# Altium footprint library RES_SMD_0603.PcbLib: 3 footprints
Each footprint in its own frame and in the unit in brackets; x right, y up, seen from the top. Pads: shape width x height; smd on the part's side, far side on the other; paste and mask are expansions set on the pad; w line width, h text height; cw(c..) or ccw(c..) is an arc to the next point about the centre after c.
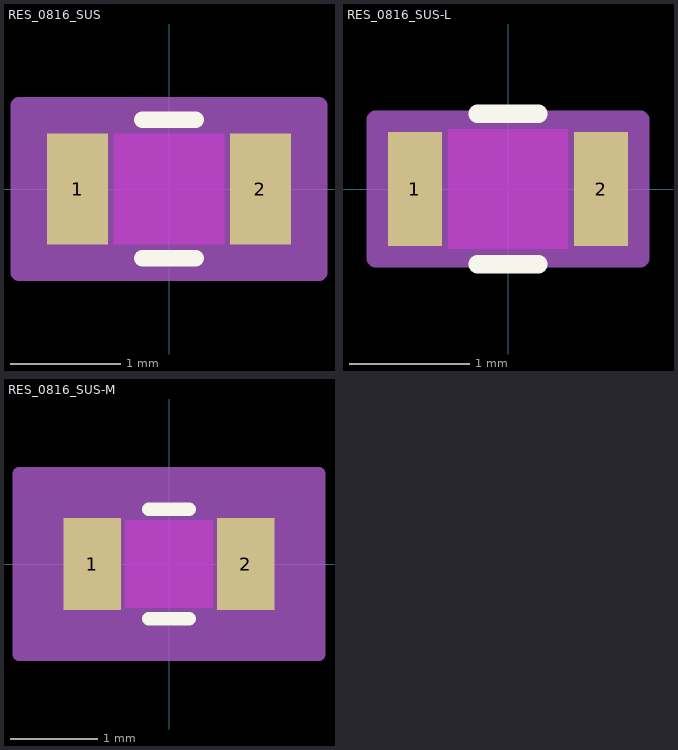
[diagram p0: the footprints below, top view; thin cyan lines are the x and y axes]

## RES_0816_SUS [mm]
pads (2):
  rect 0.553x1 smd paste+0 mask+0: 1(-0.827,0) 2(0.827,0)
Top Layer keep-out:
  region: -0.499,-0.449 -0.499,0.449 0.499,0.449 0.499,-0.449
Top Overlay:
  lines w0.152: -0.242,-0.627 0.242,-0.627 ; -0.242,0.627 0.242,0.627
Keep-Out Layer:
  region: -0.499,-0.5 -0.499,0.5 0.499,0.5 0.499,-0.5
Mechanical 13:
  lines w0.025: -0.9,-0.5 -0.9,0.5 ; -0.9,-0.5 -0.55,-0.5 -0.55,0.5 -0.9,0.5 ; -0.9,-0.5 0.9,-0.5 ; -0.9,-0.5 -0.9,0.5 ; -0.9,0.5 0.9,0.5 ; 0.9,-0.5 0.55,-0.5 0.55,0.5 0.9,0.5 ; 0.9,-0.5 0.9,0.5 ; 0.9,-0.5 0.9,0.5
Mechanical 15:
  region: 1.357,-0.754 -1.357,-0.754 -1.357,0.754 1.357,0.754
  lines w0.152: -1.357,-0.754 -1.357,0.754 1.357,0.754 1.357,-0.754 -1.357,-0.754
3D body "RES_0816_SUS.step": height 0.55, standoff 0, extent -0.9,-0.5 0.9,0.5

## RES_0816_SUS-L [mm]
pads (2):
  rect 0.452x0.949 smd paste+0 mask+0: 1(-0.776,0) 2(0.776,0)
Top Layer keep-out:
  region: -0.499,-0.449 -0.499,0.449 0.499,0.449 0.499,-0.449
Top Overlay:
  lines w0.152: -0.254,-0.627 0.254,-0.627 ; -0.254,0.627 0.254,0.627
Keep-Out Layer:
  region: -0.499,-0.5 -0.499,0.5 0.499,0.5 0.499,-0.5
Mechanical 13:
  lines w0.025: -0.9,-0.5 -0.9,0.5 ; -0.9,-0.5 -0.55,-0.5 -0.55,0.5 -0.9,0.5 ; -0.9,-0.5 0.9,-0.5 ; -0.9,-0.5 -0.9,0.5 ; -0.9,0.5 0.9,0.5 ; 0.9,-0.5 0.55,-0.5 0.55,0.5 0.9,0.5 ; 0.9,-0.5 0.9,0.5 ; 0.9,-0.5 0.9,0.5
Mechanical 15:
  region: 1.103,-0.576 -1.103,-0.576 -1.103,0.576 1.103,0.576
  lines w0.152: -1.103,-0.576 -1.103,0.576 1.103,0.576 1.103,-0.576 -1.103,-0.576
3D body "RES_0816_SUS.step": height 0.55, standoff 0, extent -0.9,-0.5 0.9,0.5

## RES_0816_SUS-M [mm]
pads (2):
  rect 0.655x1.051 smd paste+0 mask+0: 1(-0.877,0) 2(0.877,0)
Top Layer keep-out:
  region: -0.499,-0.449 -0.499,0.449 0.499,0.449 0.499,-0.449
Top Overlay:
  lines w0.152: -0.233,-0.627 0.233,-0.627 ; -0.233,0.627 0.233,0.627
Keep-Out Layer:
  region: -0.499,-0.5 -0.499,0.5 0.499,0.5 0.499,-0.5
Mechanical 13:
  lines w0.025: -0.9,-0.5 -0.9,0.5 ; -0.9,-0.5 -0.55,-0.5 -0.55,0.5 -0.9,0.5 ; -0.9,-0.5 0.9,-0.5 ; -0.9,-0.5 -0.9,0.5 ; -0.9,0.5 0.9,0.5 ; 0.9,-0.5 0.55,-0.5 0.55,0.5 0.9,0.5 ; 0.9,-0.5 0.9,0.5 ; 0.9,-0.5 0.9,0.5
Mechanical 15:
  region: 1.713,-1.033 -1.713,-1.033 -1.713,1.033 1.713,1.033
  lines w0.152: -1.713,-1.033 -1.713,1.033 1.713,1.033 1.713,-1.033 -1.713,-1.033
3D body "RES_0816_SUS.step": height 0.55, standoff 0, extent -0.9,-0.5 0.9,0.5